# EAGLE library part ICS-43432 (library invensense)
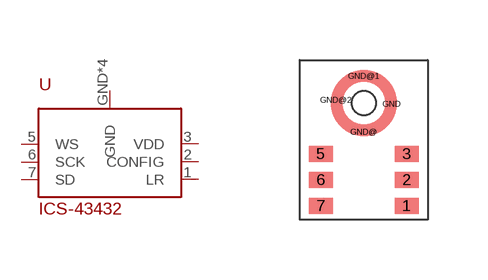
[diagram p3: symbol with the pads of ICS-43432; footprint ICS-43432]

Designator prefix -

## ICS-43432  [ICS-43432]
1  LR
2  CONFIG
3  VDD
5  WS
6  SCK
7  SD
GND  GND
GND@  GND
GND@1  GND
GND@2  GND

## Footprint ICS-43432 (pad centres in mm)
smd 0.6 x 0.4: 1 1.075,-0.65; 2 1.075,0; 3 1.075,0.65; 5 -1.075,0.65; 6 -1.075,0; 7 -1.075,-0.65
smd 0.1 x 0.1: GND 0.7,1.9; GND@ 0,1.2; GND@1 0,2.6; GND@2 -0.7,2
hole 0.6 at 0,1.925